# Altium schematic symbol library EPSON FC-135.Schlib: 1 symbol
Pins are listed as number, name and electrical type; pins without a type are passive.

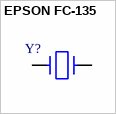
[diagram p0: symbol EPSON FC-135]

## EPSON FC-135
designator Y?
pins: 1, 2